# EAGLE library part TONE_LOCK_CONNETOR (library tcddk)
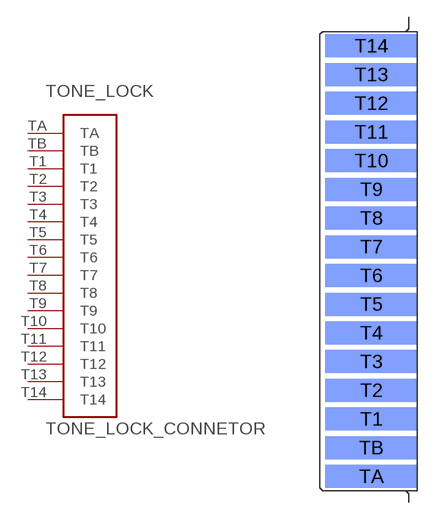
[diagram p0: symbol with the pads of TONE_LOCK_CONNECTOR; footprint TONE_LOCK_CONNECTOR]

Designator prefix TONE_LOCK

## TONE_LOCK_CONNETOR  [TONE_LOCK_CONNECTOR]
T1  T1
T2  T2
T3  T3
T4  T4
T5  T5
T6  T6
T7  T7
T8  T8
T9  T9
T10  T10
T11  T11
T12  T12
T13  T13
T14  T14
TA  TA
TB  TB

## Footprint TONE_LOCK_CONNECTOR (pad centres in mm)
smd 8 x 2 bottom: T1 0,-13.75; T2 0,-11.25; T3 0,-8.75; T4 0,-6.25; T5 0,-3.75; T6 0,-1.25; T7 0,1.25; T8 0,3.75; T9 0,6.25; T10 0,8.75; T11 0,11.25; T12 0,13.75; T13 0,16.25; T14 0,18.75; TA 0,-18.75; TB 0,-16.25